# Altium integrated library Conn Programmer.IntLib: 8 symbols
Pins are listed as number, name and electrical type; pins without a type are passive.

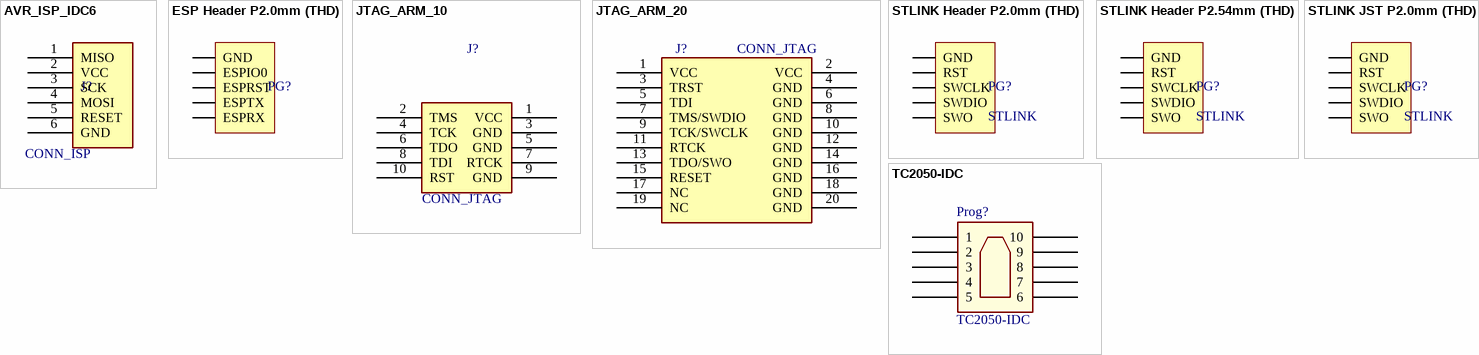
[diagram p0: symbols AVR_ISP_IDC6 to TC2050-IDC]

## AVR_ISP_IDC6
designator J?, comment CONN_ISP
CONN, ISP, AVR , HEADER BOX; VALUE: CONN_ISP
footprint IDC_2X3
pins: 1 MISO, 2 VCC, 3 SCK, 4 MOSI, 5 RESET, 6 GND

## ESP Header P2.0mm (THD)
designator PG?
PartNumber: Header 1X5 P2.0mm
footprint HDR2_M_1X5 (Connector; Header; 2mm Pitch)
pins: 1 GND, 2 ESPIO0, 3 ESPRST, 4 ESPTX, 5 ESPRX

## JTAG_ARM_10
designator J?, comment CONN_JTAG
CONN, JTAG, ARM, 10P; VALUE: CONN_JTAG
footprint IDC_2X5 (IDC, HEADER BOX 2X5, 10p, 2.54mm pitch)
pins: 1 VCC, 2 TMS, 3 GND, 4 TCK, 5 GND, 6 TDO, 7 RTCK, 8 TDI, 9 GND, 10 RST

## JTAG_ARM_20
designator J?, comment CONN_JTAG
CONN, JTAG, ARM, 20P; VALUE: CONN_JTAG
footprint IDC_2X10
pins: 1 VCC, 2 VCC, 3 TRST, 4 GND, 5 TDI, 6 GND, 7 TMS/SWDIO, 8 GND, 9 TCK/SWCLK, 10 GND, 11 RTCK, 12 GND, 13 TDO/SWO, 14 GND, 15 RESET, 16 GND, 17 NC, 18 GND, 19 NC, 20 GND

## STLINK Header P2.0mm (THD)
designator PG?, comment STLINK
PartNumber: Header 1X5 P2.0mm
footprint HDR2_M_1X5 (Connector; Header; 2mm Pitch)
pins: 1 GND, 2 RST, 3 SWCLK, 4 SWDIO, 5 SWO

## STLINK Header P2.54mm (THD)
designator PG?, comment STLINK
PartNumber: Header 1X5 P2.54mm
footprint HDR_M_1X5 (Connector; Header; 5 Position)
pins: 1 GND, 2 RST, 3 SWCLK, 4 SWDIO, 5 SWO

## STLINK JST P2.0mm (THD)
designator PG?, comment STLINK
PartNumber: B5B-PH-K-S(LF)(SN)
footprint JST B5B-PH-K
pins: 1 SWO, 2 SWDIO, 3 SWCLK, 4 RST, 5 GND

## TC2050-IDC
designator Prog?
footprint TC2050-IDC
pins: 1, 2, 3, 4, 5, 6, 7, 8, 9, 10